# Altium integrated library BMP390.IntLib: 1 symbol
Pins are listed as number, name and electrical type; pins without a type are passive.

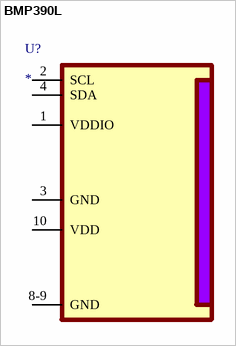
[diagram p0: symbol BMP390L]

## BMP390L
designator U?
footprint XDCR_BMP390L
pins: 1 VDDIO, 2 SCL, 3 GND, 4 SDA, 8-9 GND, 10 VDD